# Altium schematic symbol library NPN BJTs.SchLib: 1 symbol
Pins are listed as number, name and electrical type; pins without a type are passive.

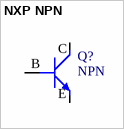
[diagram p0: symbol NXP NPN]

## NXP NPN
designator Q?, comment NPN
pins: 1 B "Base", 2 E "Emittor", 3 C "Collector"